# Altium integrated library Diodes_Zener.IntLib: 1 symbol
Pins are listed as number, name and electrical type; pins without a type are passive.

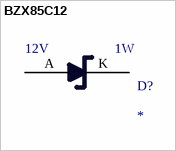
[diagram p0: symbol BZX85C12]

## BZX85C12
designator D?  Power Dissipation: 1W  Voltage: 12V
Zener Diode 12V 1W ±5% Through Hole DO-204AL (DO-41); Manufacturer1: ON Semiconductor; Manufacturer PN1: 1N4742ATR; ComponentLink1Description: Datasheet; ComponentLink1URL: https://www.onsemi.com/pub/Collateral/1N4736AT-D.PDF; Digi-Key PN: 1N4742AFSTR-ND
footprint BZ85C12 (DIODE ZENER 12V 1W DO41)
pins: A, K